# EAGLE library part HA1-5104-2 (library Intersil_By_element14_Batch_1)
Operational Amplifiers
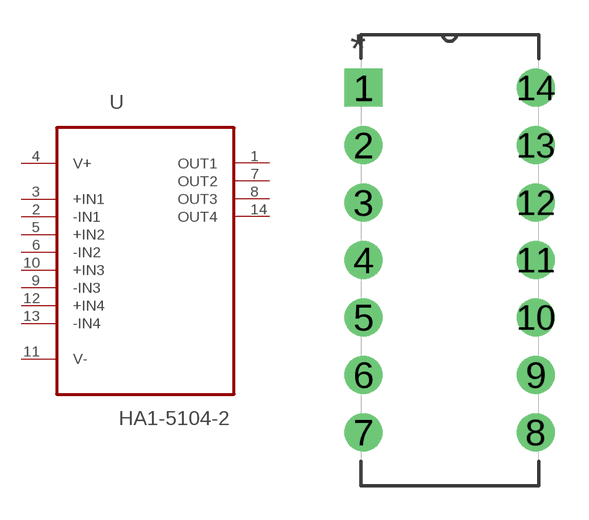
[diagram p86: symbol with the pads of DIP254P762X508-14; footprint DIP254P762X508-14]

Designator prefix U

## HA1-5104-2 (MPN: HA1-5104-2; OC_FARNELL: 7591585; OC_NEWARK: 05B6329; PACKAGE: CDIP-14; SUPPLIER: Intersil)  [DIP254P762X508-14]
1  OUT1  out
2  -IN1  in
3  +IN1  in
4  V+  pwr
5  +IN2  in
6  -IN2  in
7  OUT2  out
8  OUT3  out
9  -IN3  in
10  +IN3  in
11  V-  pwr
12  +IN4  in
13  -IN4  in
14  OUT4  out

## Footprint DIP254P762X508-14 (pad centres in mm)
drill 1.118 square: 1 -7.62,15.24
drill 1.118: 2 -7.62,12.7; 3 -7.62,10.16; 4 -7.62,7.62; 5 -7.62,5.08; 6 -7.62,2.54; 7 -7.62,0; 8 0,0; 9 0,2.54; 10 0,5.08; 11 0,7.62; 12 0,10.16; 13 0,12.7; 14 0,15.24